# Altium footprint library TP_0.PcbLib: 1 footprints
Each footprint in its own frame and in the unit in brackets; x right, y up, seen from the top. Pads: shape width x height; smd on the part's side, far side on the other; paste and mask are expansions set on the pad; w line width, h text height; cw(c..) or ccw(c..) is an arc to the next point about the centre after c.
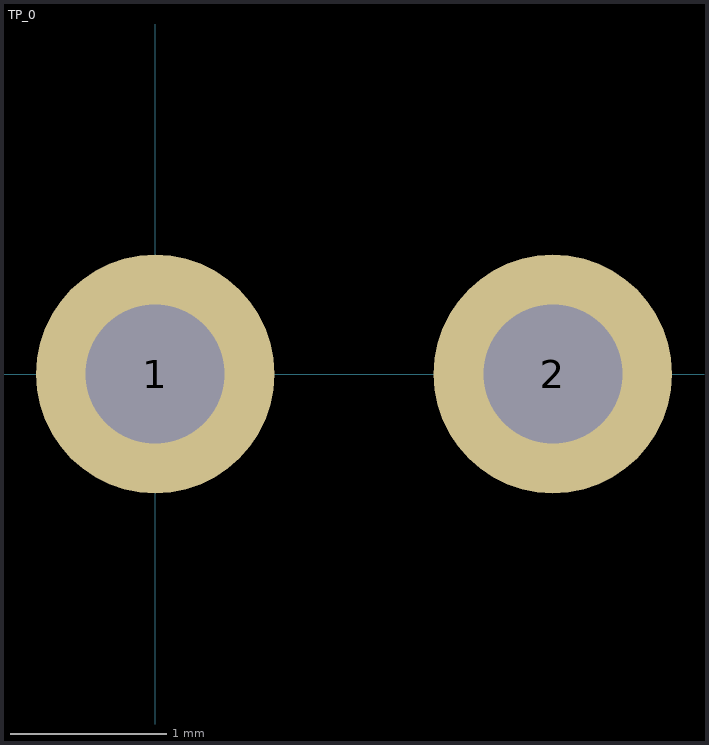
[diagram p0: the footprint, top view; thin cyan lines are the x and y axes]

## TP_0 [mil] "Test Point jumper link, 0.1\" spacing"
pads (2):
  round 60 hole 35: 1(0,0) 2(100,0)
3D body "test_point.SLDPRT": height 114.15, standoff -103.49, extent -11.8,-11.8 111.82,11.82